# Altium footprint library ldc-hw-library-pcb.PcbLib: 21 footprints (part 2 of 2)
Each footprint in its own frame and in the unit in brackets; x right, y up, seen from the top. Pads: shape width x height; smd on the part's side, far side on the other; paste and mask are expansions set on the pad; w line width, h text height; cw(c..) or ccw(c..) is an arc to the next point about the centre after c.
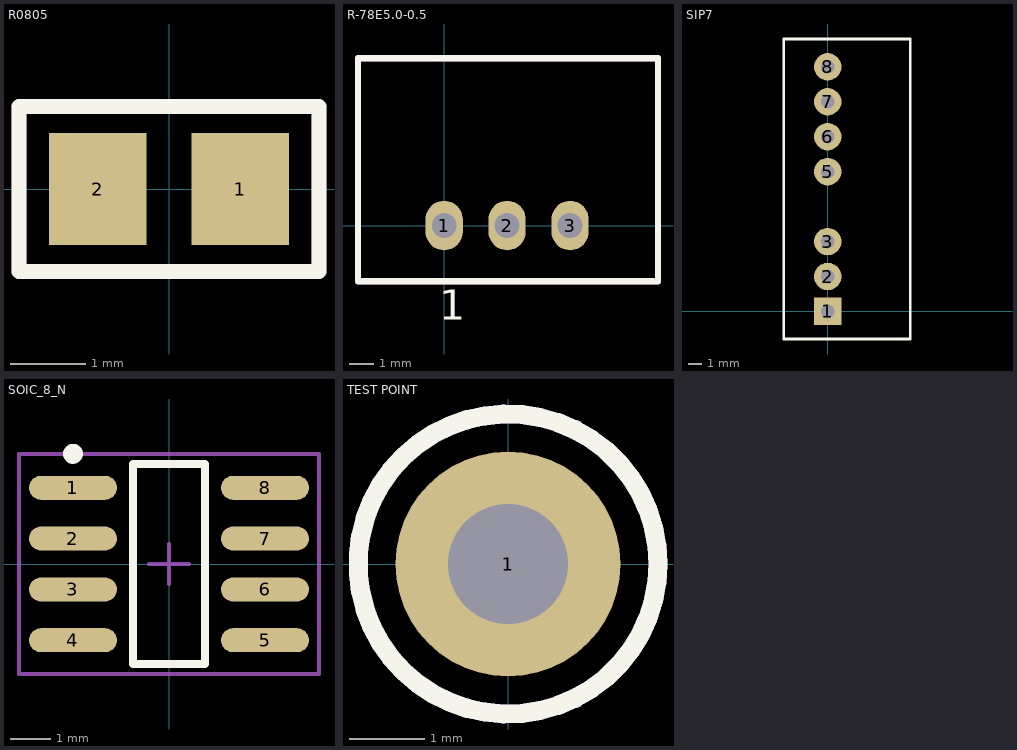
[diagram p1: the footprints below, top view; thin cyan lines are the x and y axes]

## R0805 [mm]
pads (2):
  rect 1.3x1.5 smd: 1(0.95,0) 2(-0.95,0)
Top Overlay:
  lines w0.203: -2,-1.1 2,-1.1 2,1.1 -2,1.1 -2,-1.1
Mechanical 29:
  lines w0.203: -2,-1.1 2,-1.1 2,1.1 -2,1.1 -2,-1.1
  text "R?" at 2.54,-0.254 h0.8
3D body "User Library-0805 SMD Resistor.step": height 0.51, standoff 0.01, extent -1,-0.625 1,0.625

## R-78E5.0-0.5 [mm]
pads (3):
  oval 1.5x2 hole 1: 1(0,0) 2(2.54,0) 3(5.08,0)
Top Overlay:
  lines w0.254: -3.475,-2.25 -3.475,6.75 8.625,6.75 8.625,-2.25 -3.475,-2.25
  text "1" at -0.2,-3.8 h1.2
Mechanical 29:
  lines w0.254: -3.475,-2.25 8.625,-2.25 8.625,6.75 -3.475,6.75 -3.475,-2.25
  text "1" at -0.2,-3.775 h1.2
  text "U?" at 1.975,2.825 h0.8
3D body "R-78E5.0-0.5.stp": height 10.45, standoff -4.05, extent -3.21,-2 8.39,6.5

## SIP7 [mm]
pads (7):
  rect 2x2 hole 1: 1(0,0)
  round 2 hole 1: 2(0,2.54) 3(0,5.08) 5(0,10.16) 6(0,12.7) 7(0,15.24) 8(0,17.78)
Top Overlay:
  lines w0.2: -3.2,-2 -3.2,19.8 6,19.8 6,-2 -3.2,-2
Mechanical 29:
  text "U?" at 2.908,8.29 h0.8
3D body "RS-1215D.stp": height 11.15, standoff -4.05, extent -3.2,-1.999 6,19.8

## SOIC_8_N [mm] "SOIC, 8-Leads, Body 4.9x3.9mm, Pitch 1.27mm, IPC Medium Density"
height 1.75
pads (8):
  oval 2.2x0.6 smd: 1(-2.4,1.905) 2(-2.4,0.635) 3(-2.4,-0.635) 4(-2.4,-1.905) 5(2.4,-1.905) 6(2.4,-0.635) 7(2.4,0.635) 8(2.4,1.905)
Top Overlay:
  circle w0.25: c-2.4,2.755 r0.125
  lines w0.2: -0.9,-2.5 0.9,-2.5 0.9,2.5 -0.9,2.5 -0.9,-2.5
Mechanical 15:
  lines w0.1: -0.5,0 0.5,0 ; 0,-0.5 0,0.5 ; -3.75,-2.75 3.75,-2.75 3.75,2.75 -3.75,2.75 -3.75,-2.75
Mechanical 29:
  text "U?" at -0.648,-4.156 h0.8
3D body "SOIC_8.stp": height 1.61, standoff -0.02, extent -3,-2.45 3,2.45

## TEST POINT [mm] "Test Point White 5012"
pads (1):
  round 3 hole 1.6 paste+0: 1(0,0)
Top Overlay:
  circle w0.254: c0,0 r2
Mechanical 29:
  circle w0.254: c0,0 r2
  text "TP?" at -1.016,-3.302 h0.8
3D body "User Library-TEST POINT White Keystone 5012.stp": height 8.17, standoff -3.06, extent -1.587,-1.587 1.588,1.588